# EAGLE library part TLP351 (library photocouplers)
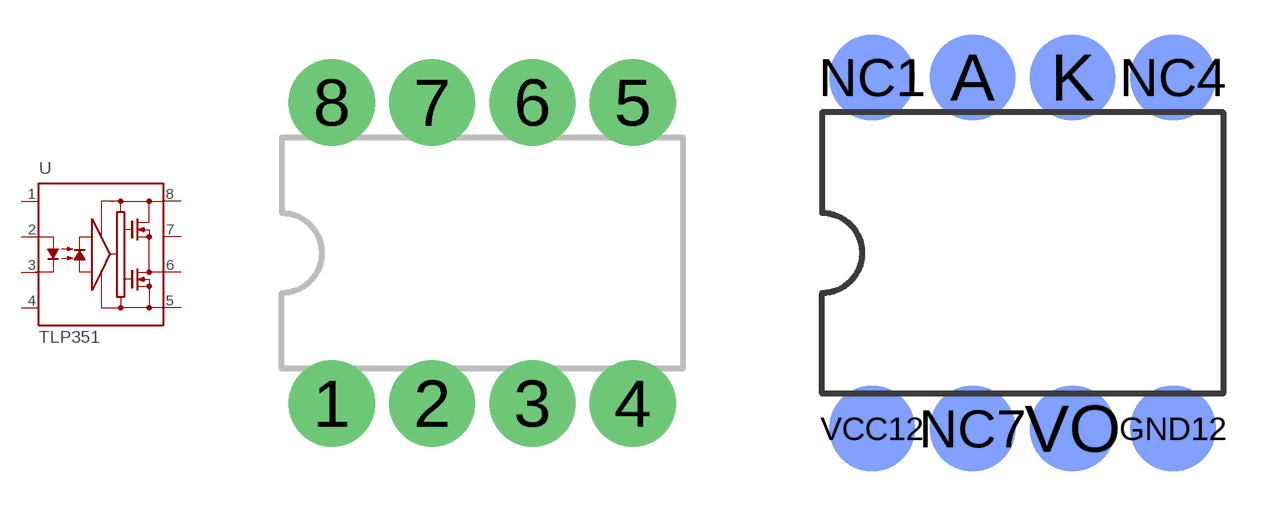
[diagram p3: symbol with the pads of DIP8; footprints DIP8, SMD]

Designator prefix -

## TLP351  [DIP8]
1  1  nc
2  2
3  3
4  4  nc
5  GND12  pwr
6  6  out
7  7  nc
8  VCC12  pwr

## TLP3518-SMD  [SMD]
A  2
GND12  GND12  pwr
K  3
NC1  1  nc
NC4  4  nc
NC7  7  nc
VCC12  VCC12  pwr
VO  6  out

## Footprint DIP8 (pad centres in mm)
Dual In Line Package
drill 1 pad 2.184: 1 -3.81,-3.81; 2 -1.27,-3.81; 3 1.27,-3.81; 4 3.81,-3.81; 5 3.81,3.81; 6 1.27,3.81; 7 -1.27,3.81; 8 -3.81,3.81

## Footprint SMD (pad centres in mm)
smd 2.184 x 2.184 bottom: A -1.27,5.08; GND12 3.81,-3.81; K 1.27,5.08; NC1 -3.81,5.08; NC4 3.81,5.08; NC7 -1.27,-3.81; VCC12 -3.81,-3.81; VO 1.27,-3.81